# EAGLE library part 693010020611 (library InputOutputIO (rev18a))
WR-CRD SIM CARD CONNECTOR HEADER SHIELDED 6PINS=>Code : Con_I-O_COM_CRD_SIM_Mini_693010020611 <http://katalog.we-online.de/media/images/eican/Con_I-O_COM_CRD_SIM_Mini_693010020611_pf2.jpg> Details see: http://katalog.we-online.de/en/em/CRD_MINI_SIM_HEADER_SHIELDED_6_PINS/693010020611 <http://katalog.we-online.de/en/em/CRD_MINI_SIM_HEADER_SHIELDED_6_PINS/6930100206111> Created 2014-07-09, Karrer Zheng 2014 (C) Würth Elektronik
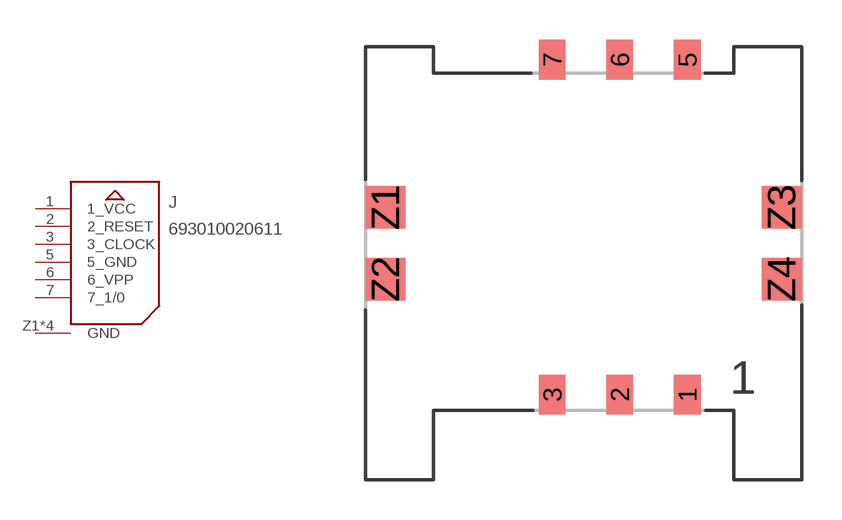
[diagram p87: symbol with the pads of 693010020611; footprint 693010020611]

Designator prefix J

## 693010020611  [693010020611]
1  1_VCC
2  2_RESET
3  3_CLOCK
5  5_GND
6  6_VPP
7  7_1/0
Z1  GND
Z2  GND
Z3  GND
Z4  GND

## Footprint 693010020611 (pad centres in mm)
WR-CRD SIM CARD CONNECTOR HEADER SHIELDED 6PINS
smd 1 x 1.5: 1 5.08,-12.6; 2 2.54,-12.6; 3 0,-12.6; 5 5.08,0; 6 2.54,0; 7 0,0
smd 1.5 x 1.6: Z1 -6.27,-5.55; Z2 -6.27,-8.25; Z3 8.63,-5.55; Z4 8.63,-8.25